# Altium schematic symbol library Transistor.SchLib: 8 symbols
Pins are listed as number, name and electrical type; pins without a type are passive.

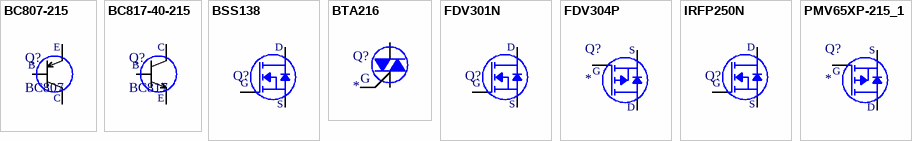
[diagram p0: symbols BC807-215 to PMV65XP-215_1]

## BC807-215
designator Q?, comment BC807
TRANS PNP 45V 500MA TO236AB; DC Current Gain: 100; Power Dissipation: 250mW; Supplier Link: https://www.digikey.com/en/products/detail/nexperia-usa-inc/BC807-215/1232227; Alternative Supplier Link: https://www.chipdip.by/product/bc807.215; Supplier: DigiKey; Alternative Supplier: Chipdip; Alternative Supplier Part No: 9000113306; Supplier Part No: 1727-4840-1-ND; Package: SOT-23; Mounting Technology: SMT; Datasheet Link: https://assets.nexperia.com/documents/data-sheet/BC807_BC807W_BC327.pdf; Collector Current: 500mA; Collector-Emitter Breakdown Voltage: 45V
footprint IRLML_SOT-23 (Infineon's IRLML Series Logic-Level Transistor SOT-23)
pins: 1 Base, 2 Emmiter, 3 Collector
text: E; B; C

## BC817-40-215
designator Q?, comment BC817
TRANS NPN 45V 0.5A SOT23; Manufacturer: Nexperia USA Inc.; Manufacturer Part No: BC817-40,215; Collector Current: 500 mA; Collector-Emitter Breakdown Voltage: 45V (max.); Power Dissipation: 250 mW; DC Current Gain: 250 @ 100mA, 1V; Supplier: DigiKey; Supplier Link: https://www.digikey.com/en/products/detail/nexperia-usa-inc/BC817-40-215/763235; Supplier Part No: 1727-2919-1-ND; Mounting Technology: SMT; Category: Transistor/BJT; Alternative Supplier: Chipdip; Alternative Supplier Link: https://www.chipdip.by/product/bc817-40; Alternative Supplier Part No: 28806907; Datasheet Link: https://assets.nexperia.com/documents/data-sheet/BC817_SER.pdf; Package: SOT-23
footprint IRLML_SOT-23 (Infineon's IRLML Series Logic-Level Transistor SOT-23)
pins: 1 Base, 2 Emmiter, 3 Collector
text: C; B; E

## BSS138
designator Q?
MOSFET N-CH 50V 200MA SOT23; Manufacturer: ON Semiconductor; Manufacturer Part No: BSS138LT1G; Supplier: DigiKey; Supplier Link: https://www.digikey.com/en/products/detail/on-semiconductor/BSS138L/5044751; Supplier Part No: BSS138LCT-ND; Mounting Technology: SMT; Package: SOT-23; Alternative Supplier: Chipdip; Alternative Supplier Part No: 457167271; Alternative Supplier Link: https://www.chipdip.by/product/bss138-onsemi
footprint IRLML_SOT-23 (Infineon's IRLML Series Logic-Level Transistor SOT-23)
pins: 1 G, 2 S, 3 D
1 alternate drawing of the same symbol

## BTA216
designator Q?
TRIAC 600V 16A
pins: G Gate, T1 Main Term 1, T2 Main Term 2

## FDV301N
designator Q?
MOSFET N-CH 25V 220MA SOT23; Manufacturer: ON Semiconductor; Manufacturer Part No: FDV301N; Supplier: ChipDip; Supplier Link: https://www.chipdip.by/product/fdv301n-2; Supplier Part No: 9010000157; Mounting Technology: SMT; Package: SOT-23
footprint IRLML_SOT-23 (Infineon's IRLML Series Logic-Level Transistor SOT-23)
pins: 1 G, 2 S, 3 D
1 alternate drawing of the same symbol

## FDV304P
designator Q?
MOSFET P-CH 25V 460MA SOT23; Manufacturer Part No: FDV304P; Manufacturer: ON Semiconductor (Fairchild); Supplier Part No: 9000231252; Supplier: ChipDip; Supplier Link: https://www.chipdip.by/product/fdv304p-2; Mounting Technology: SMT; Package: SOT-23
footprint IRLML_SOT-23 (Infineon's IRLML Series Logic-Level Transistor SOT-23)
footprint NXP_SOT-23_RF_M (Nexperia SOT-23 (TO-236AB) Reflow Medium Density: Smaller Pads)
pins: 1 Gate, 2 Source, 3 Drain
text: S; G; D

## IRFP250N
designator Q?
MOSFET N-CH 200V 30A TO-247-3; Manufacturer: Infineon; Manufacturer Part No: IRFP250NPBF; Supplier: ChipDip; Supplier Link: https://www.chipdip.by/product/irfp250n; Supplier Part No: 444051579; Mounting Technology: THT; Package: TO-247AC
pins: 1 G, 2 S, 3 D
1 alternate drawing of the same symbol

## PMV65XP-215_1
designator Q?
MOSFET P-CH 20V 2.8A 23SOT; Gate-Source Threshold Voltage: -0.69V (typ.); Drain-Source Breakdown Voltage: -20V; Drain Current: -2.8A (max.); Max Gate-Source Voltage: 12V (abs.); Supplier Part No: 1727-3124-1-ND; Supplier: DigiKey; Supplier Link: https://www.digikey.com/en/products/detail/nexperia-usa-inc/PMV65XP-215/949643; Mounting Technology: SMT; Package: SOT-23; Alternative Supplier: Chipdip; Alternative Supplier Link: https://www.chipdip.by/product/pmv65xp.215; Alternative Supplier Part No: 9000037397
footprint IRLML_SOT-23 (Infineon's IRLML Series Logic-Level Transistor SOT-23)
footprint NXP_SOT-23_RF_M (Nexperia SOT-23 (TO-236AB) Reflow Medium Density: Smaller Pads)
pins: 1 Gate, 2 Source, 3 Drain
text: S; G; D